# EAGLE library part 634008150021 (library EAGLE-INPUT_OUTPUT_CONNECTORS-rev17c)
WR-MJ_Modular Jack_Tab DOWN_10P8C 10P8C Tab DOWN_LOW Profile <http://katalog.we-online.de/media/images/eican/Con_WR-MJ_Horizontal_Shielded_634008150021_pf2.jpg> Details see: http://katalog.we-online.de/en/em/MJ_SMT_HORIZONTAL_SHIELDED_LOW_PROFILE_10P8C_TAB_DOWN/634008150021 Created 2014-10-18, aslant tao 2014 (C) Würth Elektronik
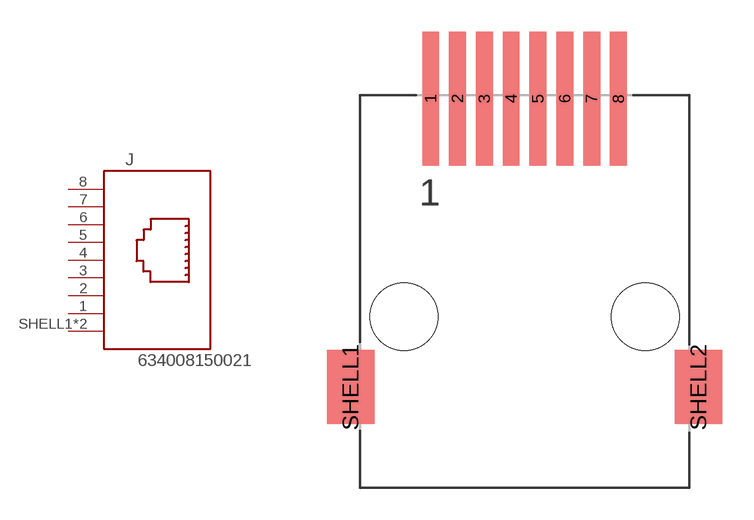
[diagram p167: symbol with the pads of 634008150021; footprint 634008150021]

Designator prefix J

## 634008150021  [634008150021]
1  1  pas
2  2  pas
3  3  pas
4  4  pas
5  5  pas
6  6  pas
7  7  pas
8  8  pas
SHELL1  SHIELD  pas
SHELL2  SHIELD  pas

## Footprint 634008150021 (pad centres in mm)
WR-MJ_Modular Jack_Tab DOWN_10P8C 10P8C Tab DOWN_LOW Profile
smd 0.8 x 6.35: 1 -4.445,10.325; 2 -3.175,10.325; 3 -1.905,10.325; 4 -0.635,10.325; 5 0.635,10.325; 6 1.905,10.325; 7 3.175,10.325; 8 4.445,10.325
smd 2.24 x 3.5: SHELL1 -8.235,-3.33; SHELL2 8.235,-3.33
hole 3.2 at -5.715,0
hole 3.2 at 5.715,0